# EAGLE library part HPH1 (library inductor-coilcraft)
hex-path (6)1:1 isolated winding inductor pkg
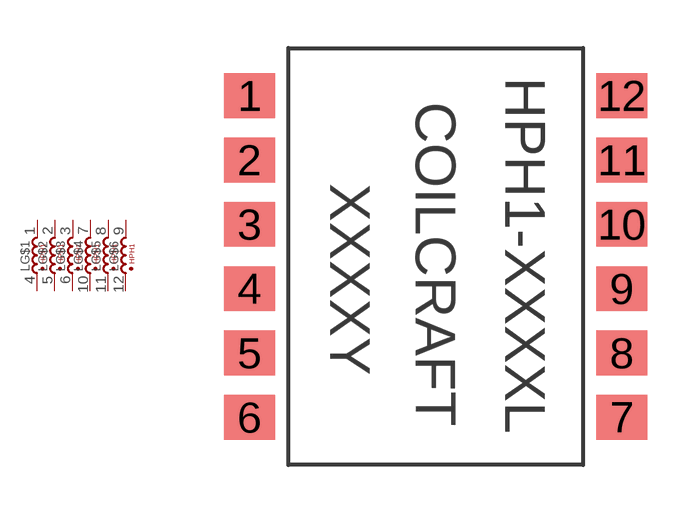
[diagram p0: symbol with the pads of HPH1/HP1; footprint HPH1/HP1]

Designator prefix L; gates G$1=TS G$2=TS G$3=TS G$4=TS G$5=TS G$6=TS

## HPH11400L (COILCRAFT: HPH1-1400L; MFR: Coilcraft; MPN: HPH1-1400L; P1I: o)  [HPH1/HP1]
1  G$1:SC  pas
2  G$2:SC  pas
3  G$3:SC  pas
4  G$1:SH  pas
5  G$2:SH  pas
6  G$3:SH  pas
7  G$4:SC  pas
8  G$5:SC  pas
9  G$6:SC  pas
10  G$4:SH  pas
11  G$5:SH  pas
12  G$6:SH  pas

## Footprint HPH1/HP1 (pad centres in mm)
smd 1.6 x 1.397: 1 -5.804,5.016; 2 -5.804,3.01; 3 -5.804,1.003; 4 -5.804,-1.003; 5 -5.804,-3.01; 6 -5.804,-5.016; 7 5.804,-5.016; 8 5.804,-3.01; 9 5.804,-1.003; 10 5.804,1.003; 11 5.804,3.01; 12 5.804,5.016